# EAGLE library part 629712010214 (library WR-USB)
WR-USB Type C Connectors Characteristics Available in 24p (3.x), 16p (2.0) and 6p (Power Delivery only) Aligned with Power Delivery up to 240W High durability (10 000 cycles) UL, TID listing for USB standards Applications Mobile computing and smart devices High-performance industrial and medical systems Consumer electronics and multimedia hubs Smart buildings Details see: www.we-online.com/en/components/products/INPUT_OUTPUT_WR_USB_STANDARD Updated by Ella 2026-07-03 2026 (C) Würth Elektronik
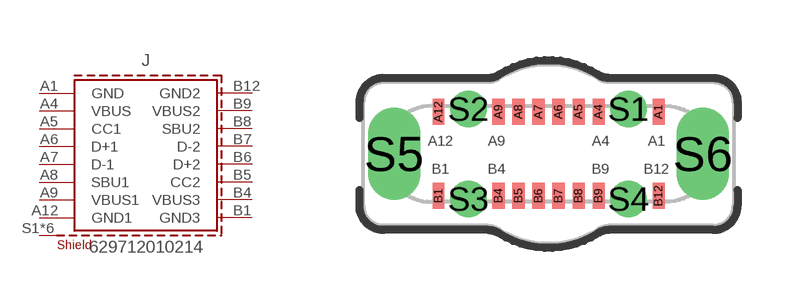
[diagram p18: symbol with the pads of 629712010214; footprint 629712010214]

Designator prefix J

## 629712010214 (APPLICATION: USB 2.0; DATASHEET: https://www.we-online.com/redexpert/spec/629712010214?ae; GERDER: Plug; INTERFACE-TYPE: Type C; IR: 5 A; MOUNT: SMT; PACKAGING: Tape and Reel; PART-NUMBER: 629712010214; PCB-THICKNESS: 0.8 mm; PINS: 16pcs; TYPE: Vertical; VALUE: 629712010214; WORKING-VOLTAGE: 48 V (DC))  [629712010214]
A1  GND  pas
A4  VBUS  pas
A5  CC1  pas
A6  D+1  pas
A7  D-1  pas
A8  SBU1  pas
A9  VBUS1  pas
A12  GND1  pas
B1  GND3  pas
B4  VBUS3  pas
B5  CC2  pas
B6  D+2  pas
B7  D-2  pas
B8  SBU2  pas
B9  VBUS2  pas
B12  GND2  pas
S1  SHIELD  pas
S2  SHIELD  pas
S3  SHIELD  pas
S4  SHIELD  pas
S5  SHIELD  pas
S6  SHIELD  pas

## Footprint 629712010214 (pad centres in mm)
WR-USB Type C Connectors USB 2.0, Type C, Vertical SMT, 16Pins, PCB Thickness:0.8 mm
smd 0.3 x 0.65: A1 2.75,1.05; A4 1.25,1.05; A5 0.75,1.05; A6 0.25,1.05; A7 -0.25,1.05; A8 -0.75,1.05; A9 -1.25,1.05; A12 -2.75,1.05; B1 -2.75,-1.05; B4 -1.25,-1.05; B5 -0.75,-1.05; B6 -0.25,-1.05; B7 0.25,-1.05; B8 0.75,-1.05; B9 1.25,-1.05; B12 2.75,-1.05
drill 0.4 pad 0.6: S1 2,1.125; S2 -2,1.125; S3 -2,-1.125; S4 2,-1.125
drill 0.8 pad 1.2 slot 1.8 rotated 90: S5 -3.86,0; S6 3.86,0